# Altium schematic symbol library SCH - MCU - INFINEON XMC - INFINEON XMC4300F100.SchLib: 1 symbol
Pins are listed as number, name and electrical type; pins without a type are passive.

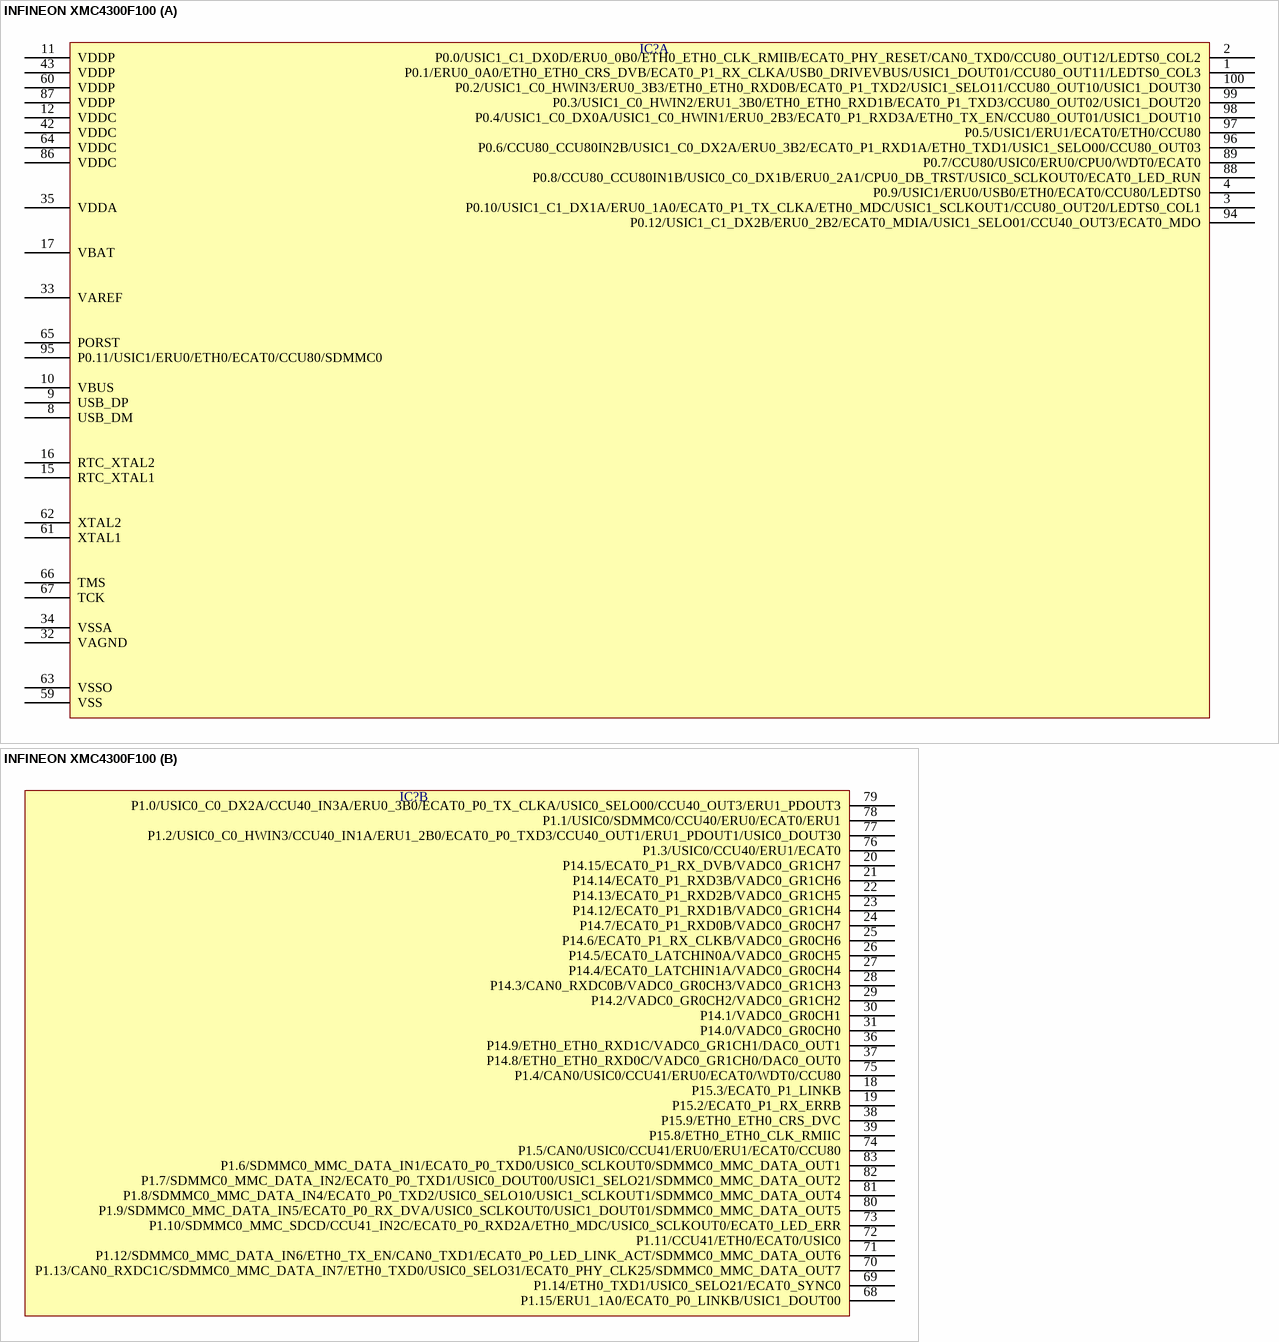
[diagram p0: symbol INFINEON XMC4300F100]

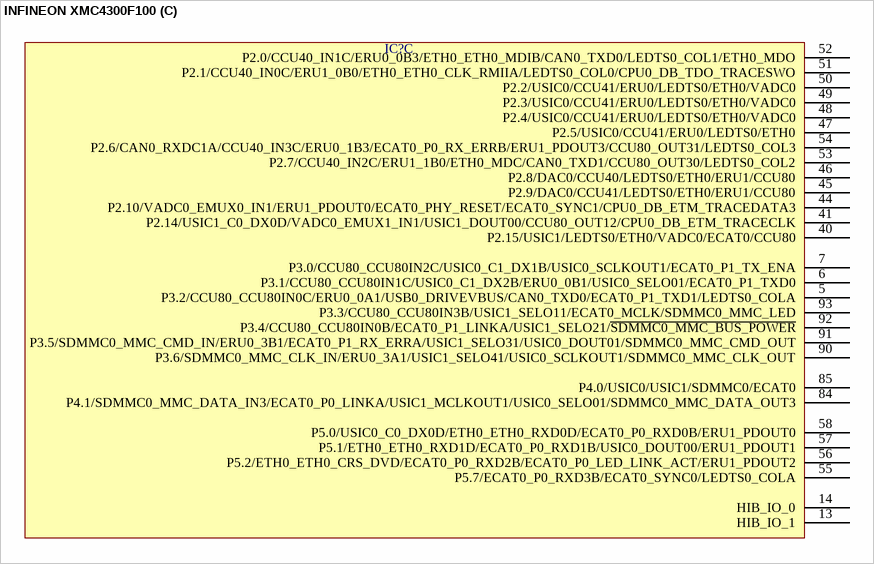
[diagram p1: symbol INFINEON XMC4300F100]

## INFINEON XMC4300F100
designator IC?  (value not drawn)
part A pins: 1 P0.1/ERU0_0A0/ETH0_ETH0_CRS_DVB/ECAT0_P1_RX_CLKA/USB0_DRIVEVBUS/USIC1_DOUT01/CCU80_OUT11/LEDTS0_COL3, 2 P0.0/USIC1_C1_DX0D/ERU0_0B0/ETH0_ETH0_CLK_RMIIB/ECAT0_PHY_RESET/CAN0_TXD0/CCU80_OUT12/LEDTS0_COL2, 3 P0.10/USIC1_C1_DX1A/ERU0_1A0/ECAT0_P1_TX_CLKA/ETH0_MDC/USIC1_SCLKOUT1/CCU80_OUT20/LEDTS0_COL1, 4 P0.9/USIC1/ERU0/USB0/ETH0/ECAT0/CCU80/LEDTS0, 8 USB_DM, 9 USB_DP, 10 VBUS, 11 VDDP, 12 VDDC, 15 RTC_XTAL1, 16 RTC_XTAL2, 17 VBAT, 32 VAGND, 33 VAREF, 34 VSSA, 35 VDDA, 42 VDDC, 43 VDDP, 59 VSS, 60 VDDP, 61 XTAL1, 62 XTAL2, 63 VSSO, 64 VDDC, 65 PORST, 66 TMS, 67 TCK, 86 VDDC, 87 VDDP, 88 P0.8/CCU80_CCU80IN1B/USIC0_C0_DX1B/ERU0_2A1/CPU0_DB_TRST/USIC0_SCLKOUT0/ECAT0_LED_RUN, 89 P0.7/CCU80/USIC0/ERU0/CPU0/WDT0/ECAT0, 94 P0.12/USIC1_C1_DX2B/ERU0_2B2/ECAT0_MDIA/USIC1_SELO01/CCU40_OUT3/ECAT0_MDO, 95 P0.11/USIC1/ERU0/ETH0/ECAT0/CCU80/SDMMC0, 96 P0.6/CCU80_CCU80IN2B/USIC1_C0_DX2A/ERU0_3B2/ECAT0_P1_RXD1A/ETH0_TXD1/USIC1_SELO00/CCU80_OUT03, 97 P0.5/USIC1/ERU1/ECAT0/ETH0/CCU80, 98 P0.4/USIC1_C0_DX0A/USIC1_C0_HWIN1/ERU0_2B3/ECAT0_P1_RXD3A/ETH0_TX_EN/CCU80_OUT01/USIC1_DOUT10, 99 P0.3/USIC1_C0_HWIN2/ERU1_3B0/ETH0_ETH0_RXD1B/ECAT0_P1_TXD3/CCU80_OUT02/USIC1_DOUT20, 100 P0.2/USIC1_C0_HWIN3/ERU0_3B3/ETH0_ETH0_RXD0B/ECAT0_P1_TXD2/USIC1_SELO11/CCU80_OUT10/USIC1_DOUT30
part B pins: 18 P15.3/ECAT0_P1_LINKB, 19 P15.2/ECAT0_P1_RX_ERRB, 20 P14.15/ECAT0_P1_RX_DVB/VADC0_GR1CH7, 21 P14.14/ECAT0_P1_RXD3B/VADC0_GR1CH6, 22 P14.13/ECAT0_P1_RXD2B/VADC0_GR1CH5, 23 P14.12/ECAT0_P1_RXD1B/VADC0_GR1CH4, 24 P14.7/ECAT0_P1_RXD0B/VADC0_GR0CH7, 25 P14.6/ECAT0_P1_RX_CLKB/VADC0_GR0CH6, 26 P14.5/ECAT0_LATCHIN0A/VADC0_GR0CH5, 27 P14.4/ECAT0_LATCHIN1A/VADC0_GR0CH4, 28 P14.3/CAN0_RXDC0B/VADC0_GR0CH3/VADC0_GR1CH3, 29 P14.2/VADC0_GR0CH2/VADC0_GR1CH2, 30 P14.1/VADC0_GR0CH1, 31 P14.0/VADC0_GR0CH0, 36 P14.9/ETH0_ETH0_RXD1C/VADC0_GR1CH1/DAC0_OUT1, 37 P14.8/ETH0_ETH0_RXD0C/VADC0_GR1CH0/DAC0_OUT0, 38 P15.9/ETH0_ETH0_CRS_DVC, 39 P15.8/ETH0_ETH0_CLK_RMIIC, 68 P1.15/ERU1_1A0/ECAT0_P0_LINKB/USIC1_DOUT00, 69 P1.14/ETH0_TXD1/USIC0_SELO21/ECAT0_SYNC0, 70 P1.13/CAN0_RXDC1C/SDMMC0_MMC_DATA_IN7/ETH0_TXD0/USIC0_SELO31/ECAT0_PHY_CLK25/SDMMC0_MMC_DATA_OUT7, 71 P1.12/SDMMC0_MMC_DATA_IN6/ETH0_TX_EN/CAN0_TXD1/ECAT0_P0_LED_LINK_ACT/SDMMC0_MMC_DATA_OUT6, 72 P1.11/CCU41/ETH0/ECAT0/USIC0, 73 P1.10/SDMMC0_MMC_SDCD/CCU41_IN2C/ECAT0_P0_RXD2A/ETH0_MDC/USIC0_SCLKOUT0/ECAT0_LED_ERR, 74 P1.5/CAN0/USIC0/CCU41/ERU0/ERU1/ECAT0/CCU80, 75 P1.4/CAN0/USIC0/CCU41/ERU0/ECAT0/WDT0/CCU80, 76 P1.3/USIC0/CCU40/ERU1/ECAT0, 77 P1.2/USIC0_C0_HWIN3/CCU40_IN1A/ERU1_2B0/ECAT0_P0_TXD3/CCU40_OUT1/ERU1_PDOUT1/USIC0_DOUT30, 78 P1.1/USIC0/SDMMC0/CCU40/ERU0/ECAT0/ERU1, 79 P1.0/USIC0_C0_DX2A/CCU40_IN3A/ERU0_3B0/ECAT0_P0_TX_CLKA/USIC0_SELO00/CCU40_OUT3/ERU1_PDOUT3, 80 P1.9/SDMMC0_MMC_DATA_IN5/ECAT0_P0_RX_DVA/USIC0_SCLKOUT0/USIC1_DOUT01/SDMMC0_MMC_DATA_OUT5, 81 P1.8/SDMMC0_MMC_DATA_IN4/ECAT0_P0_TXD2/USIC0_SELO10/USIC1_SCLKOUT1/SDMMC0_MMC_DATA_OUT4, 82 P1.7/SDMMC0_MMC_DATA_IN2/ECAT0_P0_TXD1/USIC0_DOUT00/USIC1_SELO21/SDMMC0_MMC_DATA_OUT2, 83 P1.6/SDMMC0_MMC_DATA_IN1/ECAT0_P0_TXD0/USIC0_SCLKOUT0/SDMMC0_MMC_DATA_OUT1
part C pins: 5 P3.2/CCU80_CCU80IN0C/ERU0_0A1/USB0_DRIVEVBUS/CAN0_TXD0/ECAT0_P1_TXD1/LEDTS0_COLA, 6 P3.1/CCU80_CCU80IN1C/USIC0_C1_DX2B/ERU0_0B1/USIC0_SELO01/ECAT0_P1_TXD0, 7 P3.0/CCU80_CCU80IN2C/USIC0_C1_DX1B/USIC0_SCLKOUT1/ECAT0_P1_TX_ENA, 13 HIB_IO_1, 14 HIB_IO_0, 40 P2.15/USIC1/LEDTS0/ETH0/VADC0/ECAT0/CCU80, 41 P2.14/USIC1_C0_DX0D/VADC0_EMUX1_IN1/USIC1_DOUT00/CCU80_OUT12/CPU0_DB_ETM_TRACECLK, 44 P2.10/VADC0_EMUX0_IN1/ERU1_PDOUT0/ECAT0_PHY_RESET/ECAT0_SYNC1/CPU0_DB_ETM_TRACEDATA3, 45 P2.9/DAC0/CCU41/LEDTS0/ETH0/ERU1/CCU80, 46 P2.8/DAC0/CCU40/LEDTS0/ETH0/ERU1/CCU80, 47 P2.5/USIC0/CCU41/ERU0/LEDTS0/ETH0, 48 P2.4/USIC0/CCU41/ERU0/LEDTS0/ETH0/VADC0, 49 P2.3/USIC0/CCU41/ERU0/LEDTS0/ETH0/VADC0, 50 P2.2/USIC0/CCU41/ERU0/LEDTS0/ETH0/VADC0, 51 P2.1/CCU40_IN0C/ERU1_0B0/ETH0_ETH0_CLK_RMIIA/LEDTS0_COL0/CPU0_DB_TDO_TRACESWO, 52 P2.0/CCU40_IN1C/ERU0_0B3/ETH0_ETH0_MDIB/CAN0_TXD0/LEDTS0_COL1/ETH0_MDO, 53 P2.7/CCU40_IN2C/ERU1_1B0/ETH0_MDC/CAN0_TXD1/CCU80_OUT30/LEDTS0_COL2, 54 P2.6/CAN0_RXDC1A/CCU40_IN3C/ERU0_1B3/ECAT0_P0_RX_ERRB/ERU1_PDOUT3/CCU80_OUT31/LEDTS0_COL3, 55 P5.7/ECAT0_P0_RXD3B/ECAT0_SYNC0/LEDTS0_COLA, 56 P5.2/ETH0_ETH0_CRS_DVD/ECAT0_P0_RXD2B/ECAT0_P0_LED_LINK_ACT/ERU1_PDOUT2, 57 P5.1/ETH0_ETH0_RXD1D/ECAT0_P0_RXD1B/USIC0_DOUT00/ERU1_PDOUT1, 58 P5.0/USIC0_C0_DX0D/ETH0_ETH0_RXD0D/ECAT0_P0_RXD0B/ERU1_PDOUT0, 84 P4.1/SDMMC0_MMC_DATA_IN3/ECAT0_P0_LINKA/USIC1_MCLKOUT1/USIC0_SELO01/SDMMC0_MMC_DATA_OUT3, 85 P4.0/USIC0/USIC1/SDMMC0/ECAT0, 90 P3.6/SDMMC0_MMC_CLK_IN/ERU0_3A1/USIC1_SELO41/USIC0_SCLKOUT1/SDMMC0_MMC_CLK_OUT, 91 P3.5/SDMMC0_MMC_CMD_IN/ERU0_3B1/ECAT0_P1_RX_ERRA/USIC1_SELO31/USIC0_DOUT01/SDMMC0_MMC_CMD_OUT, 92 P3.4/CCU80_CCU80IN0B/ECAT0_P1_LINKA/USIC1_SELO21/~{SDMMC0_MMC_BUS_POWER}, 93 P3.3/CCU80_CCU80IN3B/USIC1_SELO11/ECAT0_MCLK/SDMMC0_MMC_LED